# EAGLE library part ROBOTEX-FAKE (library custom)
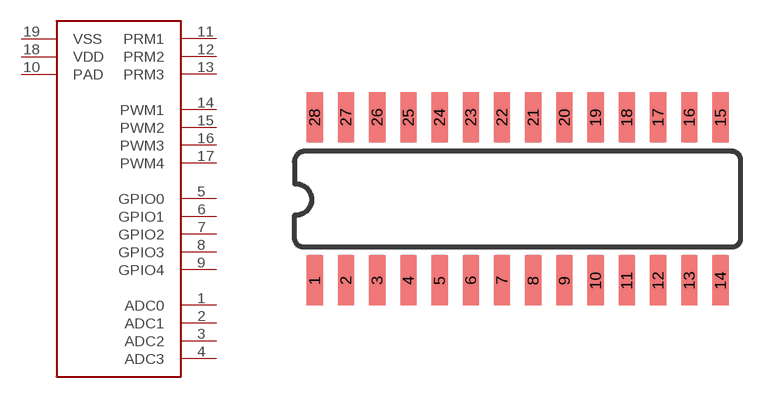
[diagram p2: symbol with the pads of SOIC-28; footprint SOIC-28]

Designator prefix -

## ROBOTEX-FAKE  [SOIC-28]
1  ADC0
2  ADC1
3  ADC2
4  ADC3
5  GPIO0
6  GPIO1
7  GPIO2
8  GPIO3
9  GPIO4
10  PAD
11  PRM1
12  PRM2
13  PRM3
14  PWM1
15  PWM2
16  PWM3
17  PWM4
18  VDD
19  VSS

## Footprint SOIC-28 (pad centres in mm)
smd 0.66 x 2.032: 1 -0.065,1.795; 2 1.205,1.795; 3 2.475,1.795; 4 3.745,1.795; 5 5.015,1.795; 6 6.285,1.795; 7 7.555,1.795; 8 8.825,1.795; 9 10.095,1.795; 10 11.365,1.795; 11 12.635,1.795; 12 13.905,1.795; 13 15.175,1.795; 14 16.445,1.795; 15 16.445,8.425; 16 15.175,8.425; 17 13.905,8.425; 18 12.635,8.425; 19 11.365,8.425; 20 10.095,8.425; 21 8.825,8.425; 22 7.555,8.425; 23 6.285,8.425; 24 5.015,8.425; 25 3.745,8.425; 26 2.475,8.425; 27 1.205,8.425; 28 -0.065,8.425